# EAGLE library part 40109B (library 40xx)
Level Shifter Low-to-High, Quad
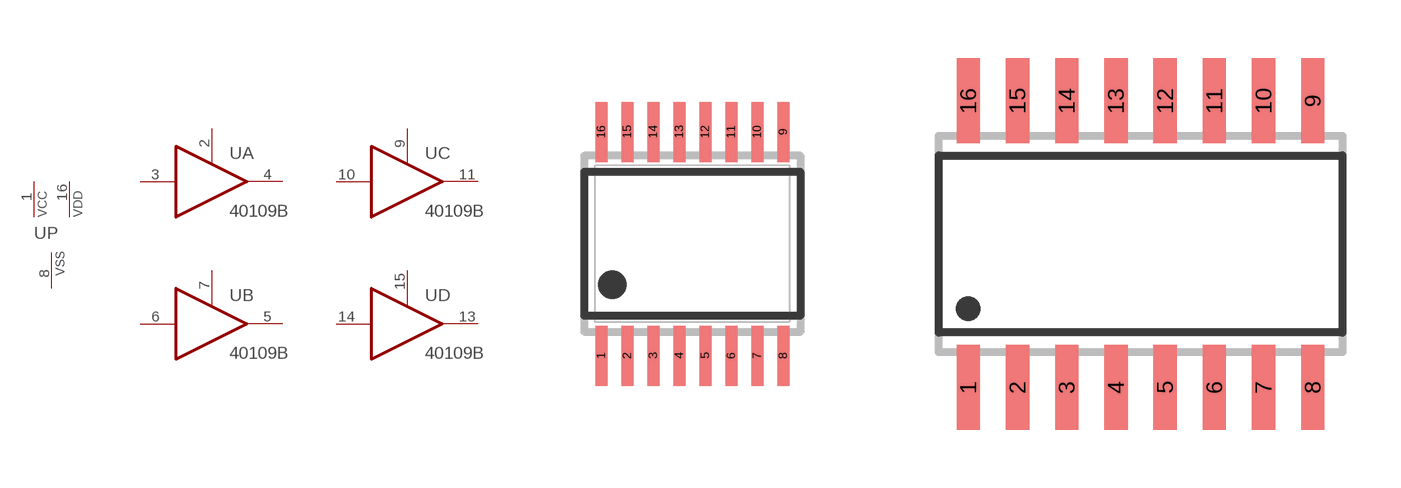
[diagram p83: symbol with the pads of TSSOP16; footprints TSSOP16, SO16NS]

Designator prefix U; gates P=VCC+VDD-VSS A=40109 B=40109 C=40109 D=40109

## 40109BPW  [TSSOP16]
1  P:VCC  pwr
2  A:EN  in
3  A:I  in
4  A:O  out
5  B:O  out
6  B:I  in
7  B:EN  in
8  P:VSS  pwr
9  C:EN  in
10  C:I  in
11  C:O  out
13  D:O  out
14  D:I  in
15  D:EN  in
16  P:VDD  pwr

## 40109BNS  [SO16NS]
Pads as for TSSOP16

## 40109BN  [DIL16]
Pads as for TSSOP16

## Footprint TSSOP16 (pad centres in mm)
Thin Shrink Small Outline Plastic 16 body 4.5 x 4.9 mm
smd 0.3 x 1.5: 1 -2.275,-2.8; 2 -1.625,-2.8; 3 -0.975,-2.8; 4 -0.325,-2.8; 5 0.325,-2.8; 6 0.975,-2.8; 7 1.625,-2.8; 8 2.275,-2.8; 9 2.275,2.8; 10 1.625,2.8; 11 0.975,2.8; 12 0.325,2.8; 13 -0.325,2.8; 14 -0.975,2.8; 15 -1.625,2.8; 16 -2.275,2.8

## Footprint SO16NS (pad centres in mm)
SMALL OUTLINE INTEGRATED CIRCUIT body 5.6 mm
smd 0.6 x 2.2: 1 -4.445,-3.7; 2 -3.175,-3.7; 3 -1.905,-3.7; 4 -0.635,-3.7; 5 0.635,-3.7; 6 1.905,-3.7; 7 3.175,-3.7; 8 4.445,-3.7; 9 4.445,3.7; 10 3.175,3.7; 11 1.905,3.7; 12 0.635,3.7; 13 -0.635,3.7; 14 -1.905,3.7; 15 -3.175,3.7; 16 -4.445,3.7

## Footprint DIL16 (pad centres in mm)
Dual In Line Package
drill 0.813 long: 1 -8.89,-3.81; 2 -6.35,-3.81; 3 -3.81,-3.81; 4 -1.27,-3.81; 5 1.27,-3.81; 6 3.81,-3.81; 7 6.35,-3.81; 8 8.89,-3.81; 9 8.89,3.81; 10 6.35,3.81; 11 3.81,3.81; 12 1.27,3.81; 13 -1.27,3.81; 14 -3.81,3.81; 15 -6.35,3.81; 16 -8.89,3.81